# Altium footprint library AD835ARZ.PcbLib: 1 footprints
Each footprint in its own frame and in the unit in brackets; x right, y up, seen from the top. Pads: shape width x height; smd on the part's side, far side on the other; paste and mask are expansions set on the pad; w line width, h text height; cw(c..) or ccw(c..) is an arc to the next point about the centre after c.
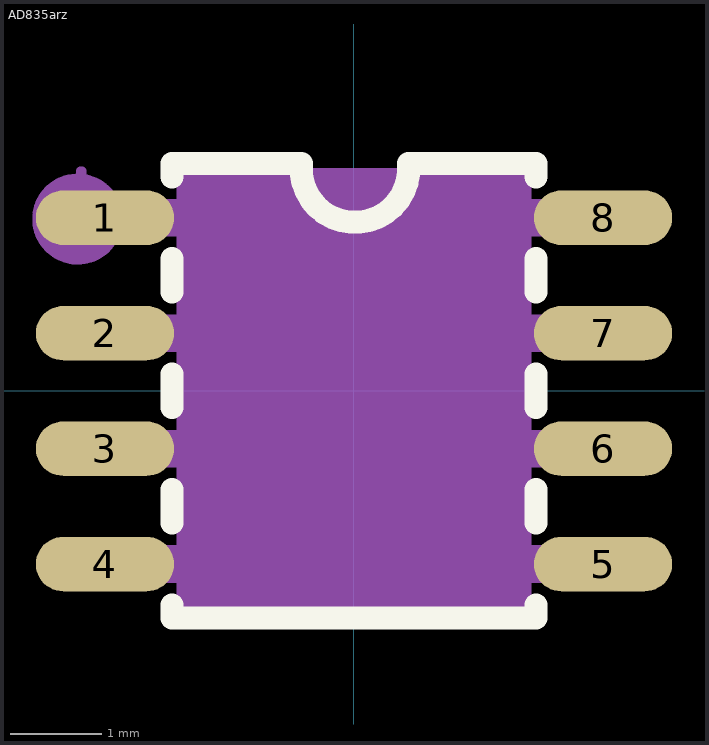
[diagram p0: the footprint, top view; thin cyan lines are the x and y axes]

## AD835arz [mm]
pads (8):
  oval 1.52x0.6 smd: 1(-2.74,1.905) 2(-2.74,0.635) 3(-2.74,-0.635) 4(-2.74,-1.905) 5(2.74,-1.905) 6(2.74,-0.635) 7(2.74,0.635) 8(2.74,1.905)
Top Overlay:
  lines w0.254: -2,-2.356 -2,-2.5 2,-2.5 2,-2.356 ; -2,-1.454 -2,-1.086 ; -2,-0.184 -2,0.184 ; -2,1.086 -2,1.454 ; -2,2.356 -2,2.5 -0.58,2.5 ; -0.58,2.49 ccw(c0.01,2.445) 0.6,2.49 ; 0.6,2.5 2,2.5 2,2.356 ; 2,-1.454 2,-1.086 ; 2,-0.184 2,0.184 ; 2,1.086 2,1.454
Mechanical 4:
  region: -1.95,-2.45 -1.95,2.45 1.95,2.45 1.95,-2.45
Mechanical 5:
  pour cut-out: -2.61,1.7 -2.61,2.11 -1.94,2.11 -1.94,1.7
  region: -3,1.7 -3,2.11 -2.6,2.11 -2.6,1.7
  pour cut-out: -2.61,0.43 -2.61,0.84 -1.94,0.84 -1.94,0.43
  region: -3,0.43 -3,0.84 -2.6,0.84 -2.6,0.43
  pour cut-out: -2.61,-0.84 -2.61,-0.43 -1.94,-0.43 -1.94,-0.84
  region: -3,-0.84 -3,-0.43 -2.6,-0.43 -2.6,-0.84
  pour cut-out: -2.61,-2.11 -2.61,-1.7 -1.94,-1.7 -1.94,-2.11
  region: -3,-2.11 -3,-1.7 -2.6,-1.7 -2.6,-2.11
  pour cut-out: 1.94,1.7 1.94,2.11 2.61,2.11 2.61,1.7
  region: 2.6,1.7 2.6,2.11 3,2.11 3,1.7
  pour cut-out: 1.94,0.43 1.94,0.84 2.61,0.84 2.61,0.43
  region: 2.6,0.43 2.6,0.84 3,0.84 3,0.43
  pour cut-out: 1.94,-0.84 1.94,-0.43 2.61,-0.43 2.61,-0.84
  region: 2.6,-0.84 2.6,-0.43 3,-0.43 3,-0.84
  pour cut-out: 1.94,-2.11 1.94,-1.7 2.61,-1.7 2.61,-2.11
  region: 2.6,-2.11 2.6,-1.7 3,-1.7 3,-2.11
Mechanical 6:
  circle w0.06: c-3,2.41 r0.03
Mechanical 15:
  circle w0.5: c-3.04,1.89 r0.25